# Altium footprint library 10.5_5mmCap.PcbLib: 1 footprints
Each footprint in its own frame and in the unit in brackets; x right, y up, seen from the top. Pads: shape width x height; smd on the part's side, far side on the other; paste and mask are expansions set on the pad; w line width, h text height; cw(c..) or ccw(c..) is an arc to the next point about the centre after c.
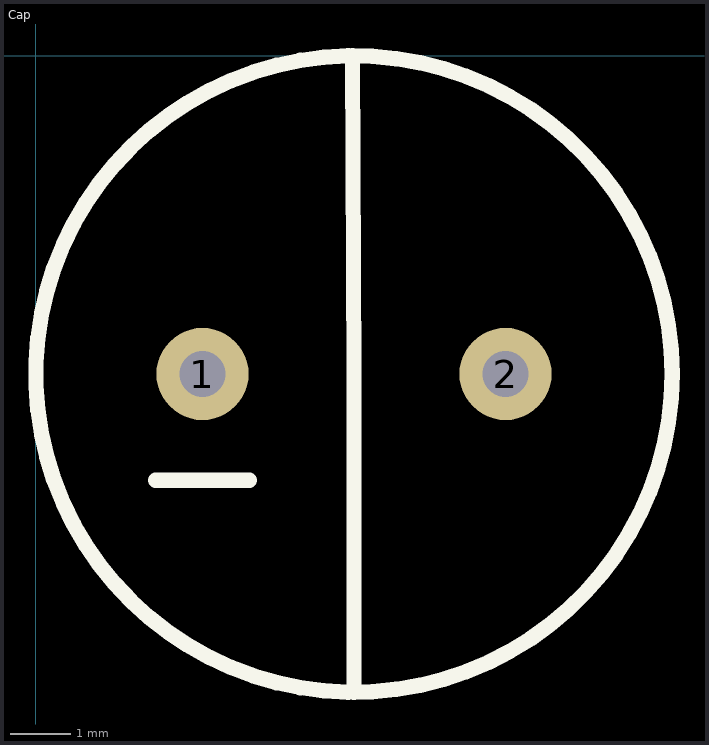
[diagram p0: the footprint, top view; thin cyan lines are the x and y axes]

## Cap [mil]
pads (2):
  round 60 hole 30: 1(108.27,-206.69) 2(305.12,-206.69)
Top Overlay:
  circle w10: c206.69,-206.69 r206.69
  lines w10: 77.76,-275.59 138.78,-275.59 ; 205.71,0 206.69,-206.69 206.69,-413.39